# EAGLE library part IMU_GY87 (library IMU_GY87)
IMU_GY87 Created by Aadesh Borate Features : Operating Voltage (logic level) : 3.3V Input Voltage (Recommended) : 5V Build in ultra low noise linear LDO voltage regulator Built-in onboard filters, which reduce noise from motor and other high current electronics Build in the Logic level converter for I2C Designed for 5V logic level Dimensions : 22 mm × 17 mm Buy this module at Robu.in <https://robu.in/product/arduino-nano-board-r3-with-ch340-chip-wo-usb-cable-solderedarduino-nano-r3-wo-usb-cable-soldered/?gclid=Cj0KCQiAhojzBRC3ARIsAGtNtHWRwDrVGBCEha0LIRQqT032PDmtLNaqUXOEZoruH2qH2ISvYZfU39kaAl9MEALw_wcB> <
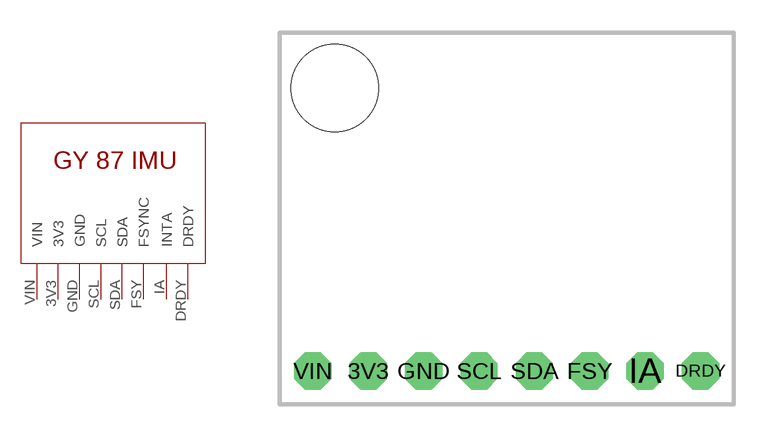
[diagram p0: symbol with the pads of IMU_GY87; footprint IMU_GY87]

Designator prefix -

## IMU_GY87  [IMU_GY87]
3V3  3V3
DRDY  DRDY
FSY  FSYNC
GND  GND
IA  INTA
SCL  SCL
SDA  SDA
VIN  VIN

## Footprint IMU_GY87 (pad centres in mm)
IMU_GY87 Created by Aadesh Borate Features : Operating Voltage (logic level) : 3.3V Input Voltage (Recommended) : 5V Build in ultra low noise linear LDO voltage regulator Built-in onboard filters, which reduce noise from motor and other high current electronics Build in the Logic level converter for I2C Designed for 5V logic level Dimensions : 22 mm × 17 mm Buy this module at Robu.in <https://robu.in/product/arduino-nano-board-r3-with-ch340-chip-wo-usb-cable-solderedarduino-nano-r3-wo-usb-cable-soldered/?gclid=Cj0KCQiAhojzBRC3ARIsAGtNtHWRwDrVGBCEha0LIRQqT032PDmtLNaqUXOEZoruH2qH2ISvYZfU39kaAl9MEALw_wcB> <
drill 1.143 octagon: 3V3 -6.35,-7.112; DRDY 8.89,-7.112; FSY 3.81,-7.112; GND -3.81,-7.112; IA 6.35,-7.112; SCL -1.27,-7.112; SDA 1.27,-7.112; VIN -8.89,-7.112
hole 4 at -7.874,5.842